# EAGLE library part VNQ5E160KTR-E (library VNQ5E160KTR-E)
None
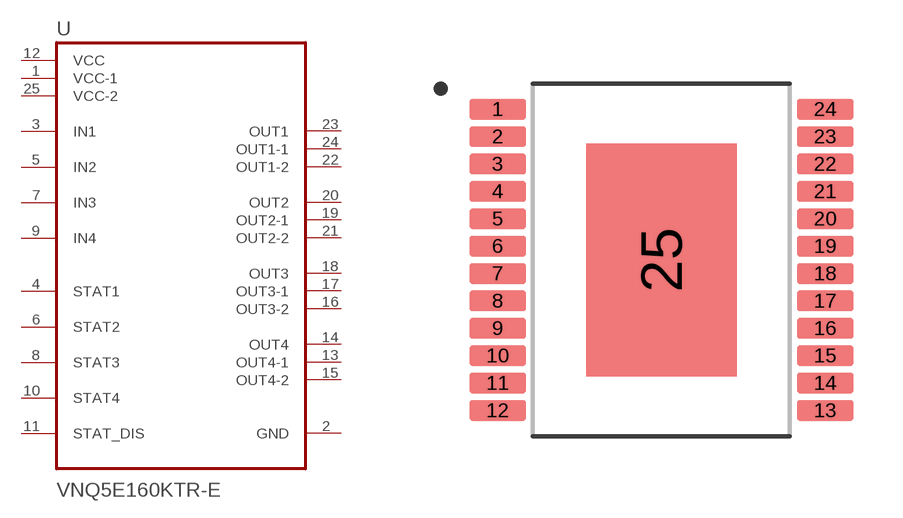
[diagram p0: symbol with the pads of SOP80P1030X245-25N; footprint SOP80P1030X245-25N]

Designator prefix U

## VNQ5E160KTR-E (AVAILABILITY: Unavailable; DESCRIPTION: VNQ5E160K-E Series 28 V 160 mOhm Quad Channel High Side Driver - PowerSSO-24; MF: STMicroelectronics; MP: VNQ5E160KTR-E; PACKAGE: SOP-24 STMicroelectronics; PRICE: None)  [SOP80P1030X245-25N]
1  VCC-1  pwr
2  GND  pwr
3  IN1
4  STAT1
5  IN2  in
6  STAT2
7  IN3  in
8  STAT3
9  IN4  in
10  STAT4
11  STAT_DIS
12  VCC  pwr
13  OUT4-1  out
14  OUT4  out
15  OUT4-2  out
16  OUT3-2  out
17  OUT3-1  out
18  OUT3  out
19  OUT2-1  out
20  OUT2  out
21  OUT2-2  out
22  OUT1-2  out
23  OUT1  out
24  OUT1-1  out
25  VCC-2  pwr

## Footprint SOP80P1030X245-25N (pad centres in mm)
smd 1.66 x 0.6: 1 -4.78,4.4; 2 -4.78,3.6; 3 -4.78,2.8; 4 -4.78,2; 5 -4.78,1.2; 6 -4.78,0.4; 7 -4.78,-0.4; 8 -4.78,-1.2; 9 -4.78,-2; 10 -4.78,-2.8; 11 -4.78,-3.6; 12 -4.78,-4.4; 13 4.78,-4.4; 14 4.78,-3.6; 15 4.78,-2.8; 16 4.78,-2; 17 4.78,-1.2; 18 4.78,-0.4; 19 4.78,0.4; 20 4.78,1.2; 21 4.78,2; 22 4.78,2.8; 23 4.78,3.6; 24 4.78,4.4
smd 4.4 x 6.8: 25 0,0